# Altium footprint library SWITCH.PcbLib: 16 footprints
Each footprint in its own frame and in the unit in brackets; x right, y up, seen from the top. Pads: shape width x height; smd on the part's side, far side on the other; paste and mask are expansions set on the pad; w line width, h text height; cw(c..) or ccw(c..) is an arc to the next point about the centre after c.
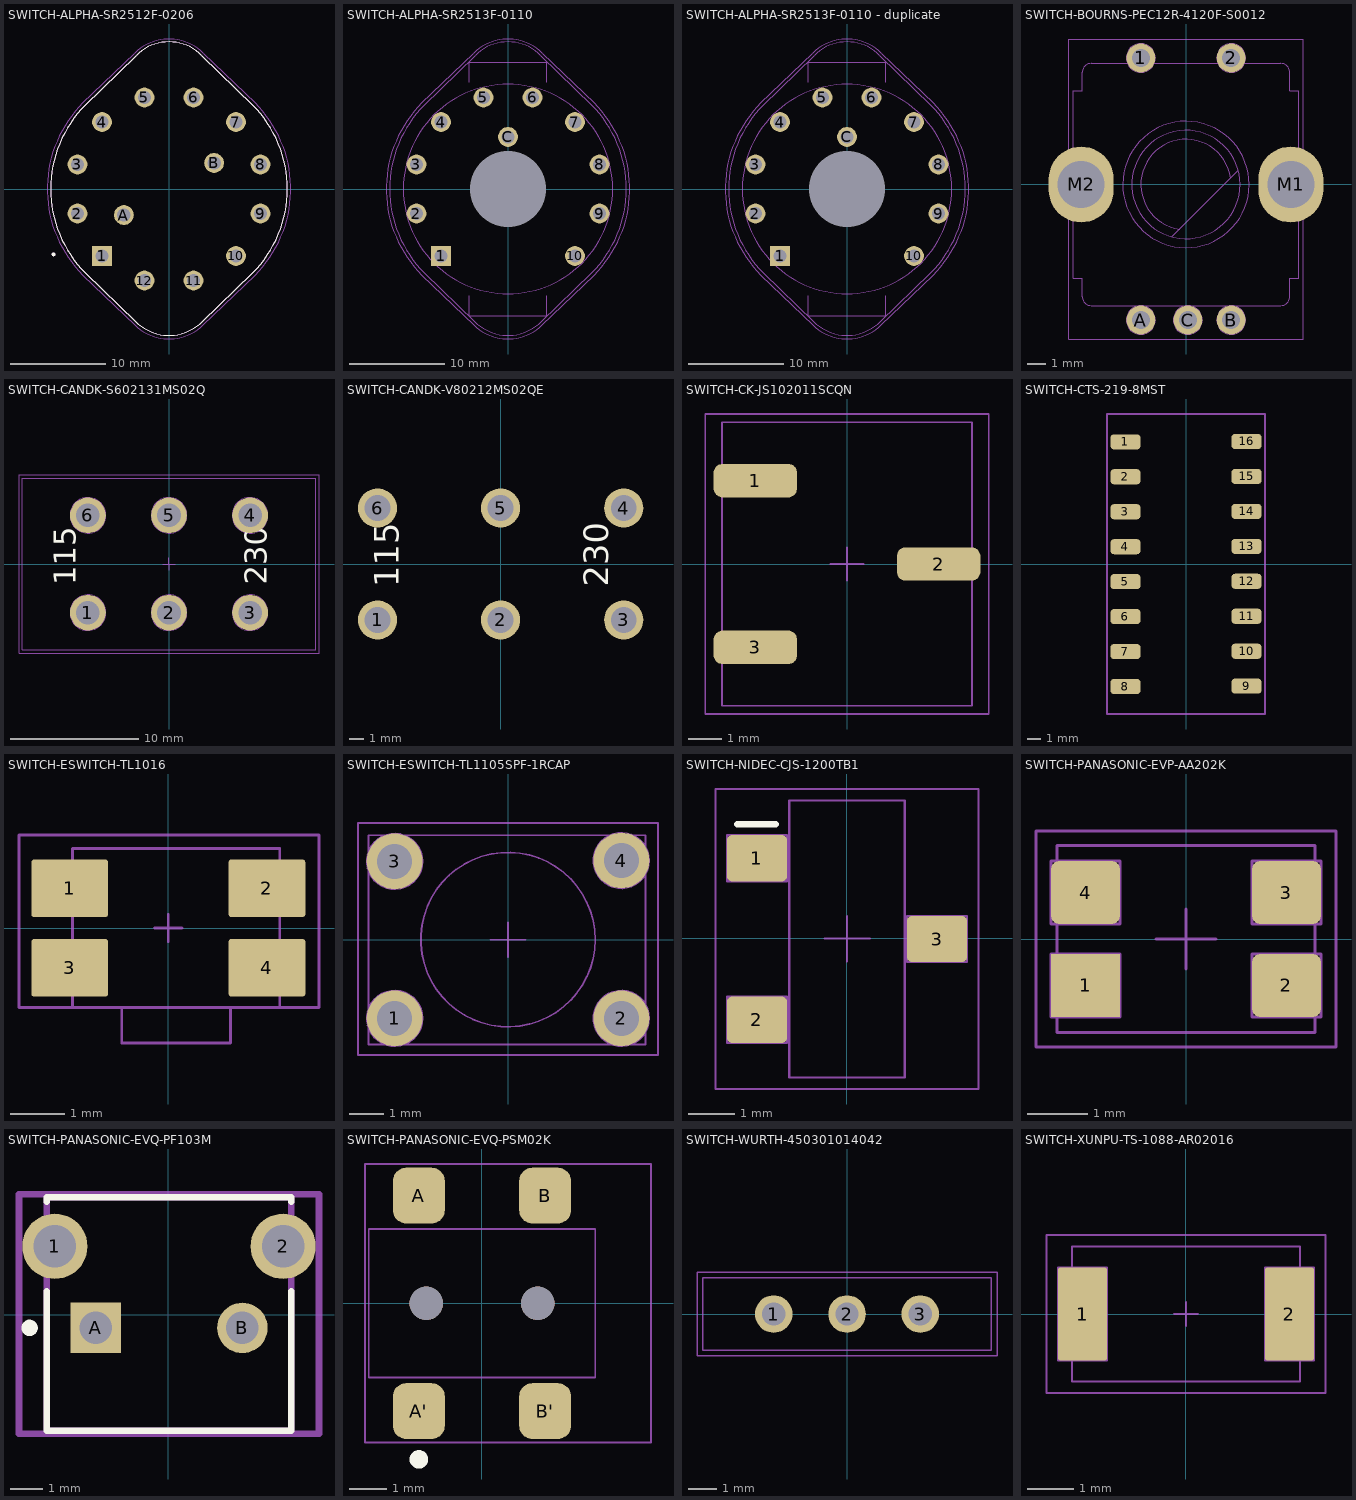
[diagram p0: the footprints below, top view; thin cyan lines are the x and y axes]

## SWITCH-ALPHA-SR2512F-0206 [mm]
pads (14):
  rect 2.1x2.1 hole 1.4: 1(-7.071,-7.071)
  round 2.1 hole 1.4: 2(-9.659,-2.588) 3(-9.659,2.588) 4(-7.071,7.071) 5(-2.588,9.659) 6(2.588,9.659) 7(7.071,7.071) 8(9.659,2.588) 9(9.659,-2.588) 10(7.071,-7.071) 11(2.588,-9.659) 12(-2.588,-9.659) A(-4.763,-2.75) B(4.763,2.75)
Top Overlay:
  circle w0.2: c-12.188,-6.899 r0.1
  lines w0.127: -8.84,-8.84 cw(c0,0) -8.84,8.84 -3.48,14.09 cw(c0,10.61) 3.48,14.09 8.84,8.84 cw(c0,0) 8.84,-8.84 3.5,-14 cw(c0,-10.5) -3.5,-14 -8.84,-8.84
Mechanical 13:
  circle w0.2: c-12.188,-6.899 r0.1
  lines w0.127: -8.84,-8.84 cw(c0,0) -8.84,8.84 -3.48,14.09 cw(c0,10.61) 3.48,14.09 8.84,8.84 cw(c0,0) 8.84,-8.84 3.5,-14 cw(c0,-10.5) -3.5,-14 -8.84,-8.84
Mechanical 15:
  lines w0.05: -9.09,-9.09 cw(c0,0) -9.09,9.09 -3.605,14.34 cw(c0,10.735) 3.605,14.34 9.09,9.09 cw(c0,0) 9.09,-9.09 3.605,-14.34 cw(c0,-10.735) -3.605,-14.34 -9.09,-9.09

## SWITCH-ALPHA-SR2513F-0110 [mm]
pads (12):
  rect 2.1x2.1 hole 1.4: 1(-7.071,-7.071)
  round 2.1 hole 1.4: 2(-9.659,-2.588) 3(-9.659,2.588) 4(-7.071,7.071) 5(-2.588,9.659) 6(2.588,9.659) 7(7.071,7.071) 8(9.659,2.588) 9(9.659,-2.588) 10(7.071,-7.071) C(0,5.5)
  round 0 hole 8 unplated paste-2539.97 mask-1: ME1(0,0)
Bottom Overlay:
  lines w0.15: -7.208,-8.375 -5.775,-8.375 -5.775,-5.775 -8.375,-5.775 -8.375,-8.375 -7.05,-8.375 ; -8.84,-8.84 cw(c0,0) -8.84,8.84 -3.48,14.09 cw(c0,10.61) 3.48,14.09 8.84,8.84 cw(c0,0) 8.84,-8.84 3.5,-14 cw(c0,-10.5) -3.5,-14 -8.84,-8.84
Top Courtyard:
  lines w0.05: -9.09,-9.09 cw(c0,0) -9.09,9.09 -3.605,14.34 cw(c0,10.735) 3.605,14.34 9.09,9.09 cw(c0,0) 9.09,-9.09 3.605,-14.34 cw(c0,-10.735) -3.605,-14.34 -9.09,-9.09
Top Assembly:
  circle w0.05: c0,0 r11.05
  lines w0.05: -4.1,-11.275 -4.1,-13.4 4.1,-13.4 4.1,-11.275 ; -4.1,11.275 -4.1,13.4 4.1,13.4 4.1,11.275 ; -8.84,-8.84 cw(c0,0) -8.84,8.84 -3.48,14.09 cw(c0,10.61) 3.48,14.09 8.84,8.84 cw(c0,0) 8.84,-8.84 3.5,-14 cw(c0,-10.5) -3.5,-14 -8.84,-8.84
3D body "SR2513F-0206-19F0A-T-N.STEP": height 16.41, standoff -18.54, extent -12.508,-15.505 12.516,15.497

## SWITCH-ALPHA-SR2513F-0110 - duplicate [mm]
pads (12):
  rect 2.1x2.1 hole 1.4: 1(-7.071,-7.071)
  round 2.1 hole 1.4: 2(-9.659,-2.588) 3(-9.659,2.588) 4(-7.071,7.071) 5(-2.588,9.659) 6(2.588,9.659) 7(7.071,7.071) 8(9.659,2.588) 9(9.659,-2.588) 10(7.071,-7.071) C(0,5.5)
  round 0 hole 8 unplated paste-2539.97 mask-1: ME1(0,0)
Bottom Overlay:
  lines w0.15: -7.208,-8.375 -5.775,-8.375 -5.775,-5.775 -8.375,-5.775 -8.375,-8.375 -7.05,-8.375 ; -8.84,-8.84 cw(c0,0) -8.84,8.84 -3.48,14.09 cw(c0,10.61) 3.48,14.09 8.84,8.84 cw(c0,0) 8.84,-8.84 3.5,-14 cw(c0,-10.5) -3.5,-14 -8.84,-8.84
Top Courtyard:
  lines w0.05: -9.09,-9.09 cw(c0,0) -9.09,9.09 -3.605,14.34 cw(c0,10.735) 3.605,14.34 9.09,9.09 cw(c0,0) 9.09,-9.09 3.605,-14.34 cw(c0,-10.735) -3.605,-14.34 -9.09,-9.09
Top Assembly:
  circle w0.05: c0,0 r11.05
  lines w0.05: -4.1,-11.275 -4.1,-13.4 4.1,-13.4 4.1,-11.275 ; -4.1,11.275 -4.1,13.4 4.1,13.4 4.1,11.275 ; -8.84,-8.84 cw(c0,0) -8.84,8.84 -3.48,14.09 cw(c0,10.61) 3.48,14.09 8.84,8.84 cw(c0,0) 8.84,-8.84 3.5,-14 cw(c0,-10.5) -3.5,-14 -8.84,-8.84
3D body: height 0, standoff -20, extent -3.01,-3 2.99,3
3D body: height 13, standoff -3, extent -3.499,-3.507 3.501,3.493
3D body: height 2.5, standoff 1, extent -12.5,0 12.5,15.525
3D body: height 2.5, standoff 1, extent -12.5,-15.525 12.5,0
3D body: height 5.27, standoff 4, extent -11.51,-11.5 11.49,11.5
3D body: height 10, standoff 9, extent -10.01,-10 9.99,10
3D body: height 12.5, standoff 11.5, extent -12,-12 12,12
3D body: height 12.5, standoff 2.5, extent -4.1,-13.4 4.1,-12.875
3D body: height 12.5, standoff 2.5, extent -4.1,12.875 4.1,13.4
3D body: height 12.5, standoff 11.5, extent -4.1,11.278 4.1,13.4
3D body: height 15, standoff 12, extent -4.488,-4.504 4.512,4.496
3D body: height 12.5, standoff 11.5, extent -4.1,-13.4 4.1,-11.278
3D body: height 3.3, standoff -2, extent -0.5,5.25 0.5,5.75
3D body: height 3.3, standoff -2, extent 2.03,9.193 3.146,10.126
3D body: height 3.3, standoff -2, extent 6.568,6.522 7.574,7.62
3D body: height 3.3, standoff -2, extent 9.288,2.04 10.03,3.136
3D body: height 3.3, standoff -2, extent -3.145,9.188 -2.029,10.121
3D body: height 3.3, standoff -2, extent -7.572,6.518 -6.567,7.615
3D body: height 3.3, standoff -2, extent -10.029,2.036 -9.287,3.131
3D body: height 3.3, standoff -2, extent -7.583,-7.627 -6.578,-6.529
3D body: height 3.3, standoff -2, extent -10.04,-3.143 -9.298,-2.048
3D body: height 3.3, standoff -2, extent 6.59,-7.624 7.596,-6.526
3D body: height 3.3, standoff -2, extent 9.31,-3.14 10.052,-2.045
3D body "SR2513F-0206-19F0A-T-N.STEP": height 16.41, standoff -18.54, extent -12.508,-15.505 12.516,15.497

## SWITCH-BOURNS-PEC12R-4120F-S0012 [mm] "SWITCH,ROTATRY+CLICK,20MM AXLE"
pads (7):
  round 1.6 hole 1: 1(-2.5,7) 2(2.5,7) A(-2.5,-7.5) B(2.5,-7.5) C(0.1,-7.5)
  oval 3.6x4.2 hole 2.6: M1(5.8,0) M2(-5.8,0)
Top Courtyard:
  lines w0.05: -6.5,-8.55 -6.5,-5.2 -6.5,8.05 6.5,8.05 6.5,-8.55 -2.5,-8.55 -6.5,-8.55
Top Assembly:
  circle w0.05: c2.5,-7.5 r0.8
  circle w0.05: c2.5,-7.5 r0.5
  circle w0.05: c0.1,-7.5 r0.8
  circle w0.05: c0.1,-7.5 r0.5
  circle w0.05: c-2.5,-7.5 r0.8
  circle w0.05: c-2.5,-7.5 r0.5
  circle w0.05: c2.5,7 r0.8
  circle w0.05: c2.5,7 r0.5
  circle w0.05: c-2.5,7 r0.8
  circle w0.05: c-2.5,7 r0.5
  circle w0.05: c0,0 r3
  lines w0.05: -0.776,-2.898 2.898,0.776 ; -0.354,-2.475 cw(c0,0) 2.475,0.353 ; 3.5,-0.025 cw(c0,0) 3.5,0 ; -6.25,5.2 -6.25,-5.2 -5.75,-5.2 -5.75,-6.2 ccw(c-5.25,-6.2) -5.25,-6.7 5.25,-6.7 ccw(c5.25,-6.2) 5.75,-6.2 5.75,-5.2 6.25,-5.2 6.25,5.2 5.75,5.2 5.75,6.2 ccw(c5.25,6.2) 5.25,6.7 -5.25,6.7 ccw(c-5.25,6.2) -5.75,6.2 -5.75,5.2 -6.25,5.2 ; -6.25,5.2 -6.25,5.2
3D body "pec12r-4x20f-sxxxx.stp": height 20.01, standoff -3.48, extent -7,-7.6 7,7.15

## SWITCH-CANDK-S602131MS02Q [mm]
pads (6):
  round 2.8 hole 1.85 unplated: 1(-6.35,-3.81) 2(0,-3.81) 3(6.35,-3.81) 4(6.35,3.81) 5(0,3.81) 6(-6.35,3.81)
Top Overlay:
  text "115" at -6.698,-1.65 h3
  text "230" at 8.252,-1.625 h3
Top Courtyard:
  lines w0.05: -0.5,0 0,0 ; 0,-0.5 0,0 ; 0,0.5 0,0 ; 0.5,0 0,0 ; -11.75,-6.975 -11.75,6.975 11.75,6.975 11.75,-6.975 -11.75,-6.975
Top Assembly:
  circle w0.05: c-6.35,-3.81 r0.925
  circle w0.05: c-6.35,-3.81 r1.4
  circle w0.05: c0,-3.81 r0.925
  circle w0.05: c0,-3.81 r1.4
  circle w0.05: c6.35,-3.81 r0.925
  circle w0.05: c6.35,-3.81 r1.4
  circle w0.05: c6.35,3.81 r0.925
  circle w0.05: c6.35,3.81 r1.4
  circle w0.05: c0,3.81 r0.925
  circle w0.05: c0,3.81 r1.4
  circle w0.05: c-6.35,3.81 r0.925
  circle w0.05: c-6.35,3.81 r1.4
  lines w0.05: -11.493,-6.731 -11.493,6.731 11.493,6.731 11.493,-6.731 -11.493,-6.731
  text "230" at 8.252,-1.625 h3
  text "115" at -6.698,-1.65 h3
  text "S602131MS02Q" at -3.275,1.115 h1.5
  text "S202121MS02Q" at -3.275,-0.885 h1.5
3D body "S602131MS02Q.stp": height 11.11, standoff -3.66, extent -11.493,-6.731 11.493,6.731

## SWITCH-CANDK-V80212MS02QE [mm]
pads (6):
  round 2.8 hole 1.85 unplated: 1(-8.8,-4) 2(0,-4) 3(8.8,-4) 4(8.8,4) 5(0,4) 6(-8.8,4)
Top Overlay:
  text "115" at -6.698,-1.65 h3
  text "230" at 8.252,-1.625 h3
Top Assembly:
  text "V80212MS02QE" at -3.275,0.115 h1.5
3D body "V80213MS02Q.stp": height 15.41, standoff -4.81, extent -13.094,-8.255 13.094,8.255

## SWITCH-CK-JS102011SCQN [mm]
pads (3):
  rrect50% 2.5x1 smd: 1(-2.75,2.5) 2(2.75,0) 3(-2.75,-2.5)
Top Courtyard:
  lines w0.05: -0.5,0 0,0 ; 0,-0.5 0,0 ; 0,0.5 0,0 ; 0.5,0 0,0 ; -4.25,-4.5 -4.25,4.5 4.25,4.5 4.25,-4.5 -4.25,-4.5
Top Assembly:
  lines w0.05: -3.75,-4.25 3.75,-4.25 3.75,4.25 -3.75,4.25 -3.75,-4.25
3D body "JS102011SCQN.stp": height 5.51, standoff 0.01, extent -3.75,-4.25 3.75,4.25

## SWITCH-CTS-219-8MST [mm]
pads (16):
  rrect50% 2.2x1.1 smd mask+0.05: 1(-4.4,8.878) 2(-4.4,6.338) 3(-4.4,3.798) 4(-4.4,1.258) 5(-4.4,-1.282) 6(-4.4,-3.822) 7(-4.4,-6.362) 8(-4.4,-8.902) 9(4.4,-8.877) 10(4.4,-6.337) 11(4.4,-3.797) 12(4.4,-1.257) 13(4.4,1.283) 14(4.4,3.823) 15(4.4,6.363) 16(4.4,8.903)
Top Courtyard:
  lines w0.15: -5.75,-10.9 5.75,-10.9 5.75,10.9 -4.95,10.9 -5.75,10.9 -5.75,-10.9
3D body "KAG08LGGx.stp": height 4.56, standoff 0.01, extent -4.95,-10.66 4.95,10.66

## SWITCH-ESWITCH-TL1016 [mm]
pads (4):
  rrect9% 1.4x1.05 smd paste+0 mask+0.05: 1(-1.8,0.725) 2(1.8,0.725) 3(-1.8,-0.725) 4(1.8,-0.725)
Top Courtyard:
  lines w0.05: -0.25,0 0,0 ; 0,-0.25 0,0 ; 0,0.25 0,0 ; 0.25,0 0,0 ; -2.725,-1.45 -2.725,1.7 2.75,1.7 2.75,-1.2 2.75,-1.45 1.134,-1.45 -2.725,-1.45
Top Assembly:
  lines w0.05: -1.75,-1.45 -1.75,1.45 2.035,1.45 2.035,-1.45 1.134,-1.45 1.134,-2.1 -0.85,-2.1 -0.85,-1.45 -1.75,-1.45
3D body "TL1016AAFxxxQG.stp": height 1.36, standoff 0.01, extent -2.35,-2.1 2.35,1.45

## SWITCH-ESWITCH-TL1105SPF-1RCAP [mm] "SWTICH,TACT,MOM,WITH 1R CAP,E-SWITCH TL1105SP"
pads (4):
  round 1.6 hole 1: 1(-3.25,-2.25) 2(3.25,-2.25) 3(-3.25,2.25) 4(3.25,2.275)
Top Courtyard:
  lines w0.05: -0.5,0 0,0 ; 0,-0.5 0,0 ; 0,0.5 0,0 ; 0.5,0 0,0 ; -4.3,-3.3 4.3,-3.3 4.3,3.35 -4.3,3.35 -4.3,-3.3
Top Assembly:
  circle w0.05: c3.25,-2.25 r0.8
  circle w0.05: c3.25,-2.25 r0.5
  circle w0.05: c-3.25,-2.25 r0.8
  circle w0.05: c-3.25,-2.25 r0.5
  circle w0.05: c-3.25,2.25 r0.8
  circle w0.05: c-3.25,2.25 r0.5
  circle w0.05: c3.25,2.275 r0.8
  circle w0.05: c3.25,2.275 r0.5
  circle w0.05: c0.001,0.009 r2.5
  lines w0.05: -4,-3 3.944,-3 3.944,3 0,3 -4,3 -4,-3
3D body: height 13.5, standoff 4.5, extent -2.499,-2.491 2.501,2.509
3D body "TL1105SPFxxxx.stp": height 7.41, standoff -3.54, extent -3.944,-3 3.944,3

## SWITCH-NIDEC-CJS-1200TB1 [mm] "SWITCH-NIDEC-CJS-1200TB1"
pads (3):
  rrect20% 1.3x1 smd mask+0.05: 1(-1.95,1.739) 2(-1.95,-1.761) 3(1.95,-0.011)
Top Overlay:
  lines w0.15: -2.375,2.475 -1.55,2.475
Top Courtyard:
  lines w0.05: -0.482,0 0.018,0 ; 0,-0.5 0,0 0.5,0 ; 0,-0.011 0,0.489 ; -2.85,-3.261 -2.85,3.239 2.85,3.239 2.85,-3.261 -2.85,-3.261
Top Assembly:
  lines w0.05: -1.25,2.989 -1.25,-3.011 1.25,-3.011 ; -1.25,2.989 0,2.989 1.25,2.989 ; 1.25,2.989 1.25,-3.011 ; -2.6,1.239 -2.6,2.239 ; -2.6,1.239 -1.3,1.239 ; -2.6,1.239 -2.6,2.239 ; -2.6,1.239 -1.3,1.239 ; -2.6,2.239 -1.95,2.239 -1.3,2.239 -1.3,1.239 ; 1.25,-3.011 1.25,-3.011 ; -2.6,-2.261 -2.6,-1.261 -1.95,-1.261 -1.3,-1.261 -1.3,-2.261 -2.6,-2.261 ; 1.3,-0.511 1.3,0.489 1.95,0.489 2.6,0.489 2.6,-0.511 1.3,-0.511
  text "1" at -2.6,1.239 h1
  text "1" at -2.6,1.239 h1
3D body "CJS-1201B1.stp": height 2.53, standoff 0.01, extent -2.1,-3.011 2.1,2.989

## SWITCH-PANASONIC-EVP-AA202K [mm] "SWITCH-PANASONIC-EVP-AA202K"
height 1.713
pads (4):
  rect 1.15x1.05 smd mask+0.075: 1(-1.675,-0.775)
  rrect25% 1.15x1.05 smd mask+0.075: 2(1.675,-0.775) 3(1.675,0.775) 4(-1.675,0.775)
Top Courtyard:
  lines w0.05: 0,-0.5 0,0 ; 0,0 -0.5,0 0,0 ; 0,0 0,0.5 0,0 ; 0,0 0.5,0 0,0 ; -2.5,-1.8 2.5,-1.8 2.5,1.8 -2.5,1.8 -2.5,-1.8
Top Assembly:
  lines w0.05: -2.25,-1.3 -2.25,-0.25 -1.675,-0.25 -1.1,-0.25 -1.1,-1.3 -2.25,-1.3 ; -2.25,0.25 -2.25,1.3 -1.675,1.3 -1.1,1.3 -1.1,0.25 -2.25,0.25 ; -2.15,-1.555 -2.15,1.555 2.15,1.555 2.15,-1.555 -2.15,-1.555 ; 1.1,-1.3 1.1,-0.25 1.675,-0.25 2.25,-0.25 2.25,-1.3 1.1,-1.3 ; 1.1,0.25 1.1,1.3 1.675,1.3 2.25,1.3 2.25,0.25 1.1,0.25
  text "1" at -2.25,-1.3 h1
3D body "EVPAA-002K_202K_402W_602W_802Q.STEP": height 1.71, standoff 0.01, extent -2.15,-1.555 2.15,1.555

## SWITCH-PANASONIC-EVQ-PF103M [mm]
pads (4):
  round 2 hole 1.3 paste-2539.97 mask+0: 1(-3.475,2.1) 2(3.525,2.1)
  rect 1.55x1.55 hole 1 paste-2539.97 mask+0: A(-2.225,-0.4)
  round 1.55 hole 1 paste-2539.97 mask+0: B(2.275,-0.4)
Top Overlay:
  circle w0.25: c-4.25,-0.4 r0.125
  lines w0.2: -3.725,0.725 -3.725,-3.55 3.775,-3.55 3.775,0.725 ; -3.725,3.475 -3.725,3.6 3.775,3.6 3.775,3.475
Top 3D Body:
  lines w0.2: -3.725,-3.55 3.775,-3.55 3.775,3.6 -3.725,3.6 -3.725,-3.55
Bottom Courtyard:
  lines w0.2: -4.575,-3.65 4.625,-3.65 4.625,3.7 -4.575,3.7 -4.575,-3.65
Top Assembly:
  lines w0.2: -4.575,-3.65 4.625,-3.65 4.625,3.7 -4.575,3.7 -4.575,-3.65
3D body "Switch_Panasonic_Electronic_Components_EVQ-PF103M_eec.STEP": height 0.25, standoff 0, extent -4.575,-3.65 4.625,3.7

## SWITCH-PANASONIC-EVQ-PSM02K [mm]
pads (6):
  rrect50% 1.4x1.5 smd paste+0 mask+0.05: A(-1.7,2.9) A'(-1.7,-2.9) B(1.7,2.9) B'(1.7,-2.9)
  round 0.9 hole 0.9 unplated paste-2539.97 mask+0: ""(-1.5,0) ""(1.5,0)
Top Overlay:
  circle w0.25: c-1.7,-4.2 r0.125
Top 3D Body:
  lines w0.05: -3.05,-2 3.05,-2 3.05,2 -3.05,2 -3.05,-2
Bottom Courtyard:
  lines w0.05: -3.15,-3.75 4.55,-3.75 4.55,3.75 -3.15,3.75 -3.15,-3.75
Top Assembly:
  lines w0.05: -3.15,-3.75 4.55,-3.75 4.55,3.75 -3.15,3.75 -3.15,-3.75
3D body "Switch_Panasonic_Electronic_Components_EVQ-PSM02K_eec.STEP": height 0.25, standoff 0, extent -3.15,-3.75 4.55,3.75

## SWITCH-WURTH-450301014042 [mm] "SWITCH-WURTH-450301014042"
pads (3):
  round 1.3 hole 0.8 mask+0.05: 1(-2.54,0) 2(0,0) 3(2.54,0)
Top Courtyard:
  lines w0.05: -5.2,-1.45 -5.2,1.45 5.2,1.45 5.2,-1.45 -5.2,-1.45
Top Assembly:
  lines w0.05: -5,-1.25 5,-1.25 5,1.25 -5,1.25 -5,-1.25
Mechanical 15:
  lines w0.05: -0.5,0 0.5,0 ; 0,-0.5 0,0.5
3D body "450301014042.stp": height 6.43, standoff -4.97, extent -5,-1.25 5,1.25

## SWITCH-XUNPU-TS-1088-AR02016 [mm] "LCSC C720477"
pads (2):
  rrect9% 1.05x2 smd paste+0 mask+0.05: 1(-2.225,0) 2(2.225,0)
Top Courtyard:
  lines w0.05: -0.25,0 0,0 ; 0,-0.25 0,0 ; 0,0.25 0,0 ; 0.25,0 0,0 ; -3,-1.7 -3,1.7 3,1.7 3,-1.7 2.575,-1.7 0.459,-1.7 -3,-1.7
Top Assembly:
  lines w0.05: -2.45,1 -1.7,1 -1.7,-1 -2.75,-1 -2.75,1 -2.225,1 ; -2.45,-1.45 2.45,-1.45 2.45,1.45 -2.45,1.45 -2.45,-1.45 ; 1.7,-1 2.75,-1 2.75,1 2.225,1 1.7,1 1.7,-1
3D body "CS1213AGF260.stp": height 2, standoff 0, extent -2.45,-1.45 2.45,1.45